# EAGLE library part LT1506 (library IC)
Linear Technology LT1506 - 4.5A 500kHz step-down switching regulator. 4 to 15V input. Available in fixed and adjustable output configurations.
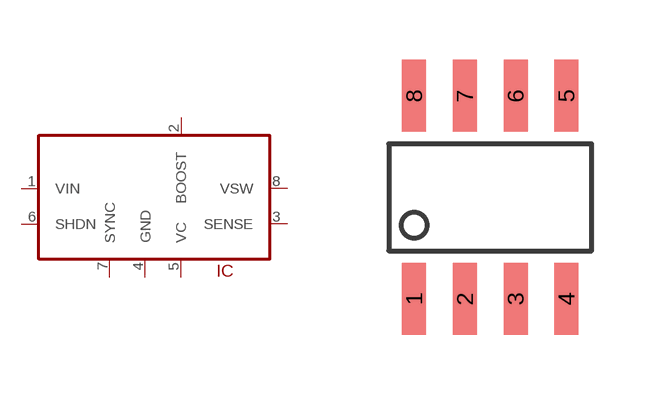
[diagram p184: symbol with the pads of SOIC8; footprint SOIC8]

Designator prefix IC

## LT1506  [SOIC8]
1  VIN  pwr
2  BOOST  pwr
3  SENSE  pwr
4  GND  pwr
5  VC  pwr
6  SHDN
7  SYNC  pwr
8  VSW  pwr

## Footprint SOIC8 (pad centres in mm)
8 pin SOIC 150-mil package
smd 0.6 x 1.8: 1 -1.905,-2.54; 2 -0.635,-2.54; 3 0.635,-2.54; 4 1.905,-2.54; 5 1.905,2.54; 6 0.635,2.54; 7 -0.635,2.54; 8 -1.905,2.54